# EAGLE library part IRF7475PBF (library E14-P-099-R21.2(US_drills))
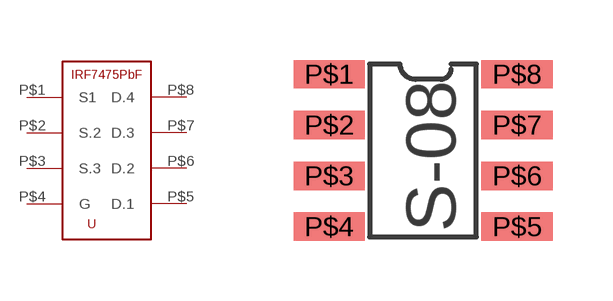
[diagram p4: symbol with the pads of SO-8; footprint SO-8]

Designator prefix -

## IRF7475PBF  [SO-8]
P$1  S1
P$2  S.2
P$3  S.3
P$4  G
P$5  D.1
P$6  D.2
P$7  D.3
P$8  D.4

## Footprint SO-8 (pad centres in mm)
smd 1.778 x 0.711: P$1 0,0; P$2 0,-1.27; P$3 0,-2.54; P$4 0,-3.81; P$5 4.699,-3.81; P$6 4.699,-2.54; P$7 4.699,-1.27; P$8 4.699,0